# Altium schematic symbol library 4 PIN.SchLib: 1 symbol
Pins are listed as number, name and electrical type; pins without a type are passive.

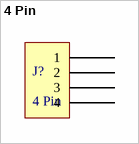
[diagram p0: symbol 4 Pin]

## 4 Pin
designator J?
pins: 1, 2, 3, 4